# EAGLE library part PIC32MK1024MCF064-I_PT (library PIC_FORREAL)
MICROCHIP - PIC32MK1024MCF064-I/PT - MCU, 32BIT, PIC32, 120MHZ, TQFP-64 Source: Datasheet <http://ww1.microchip.com/downloads/en/DeviceDoc/60001402D.pdf>
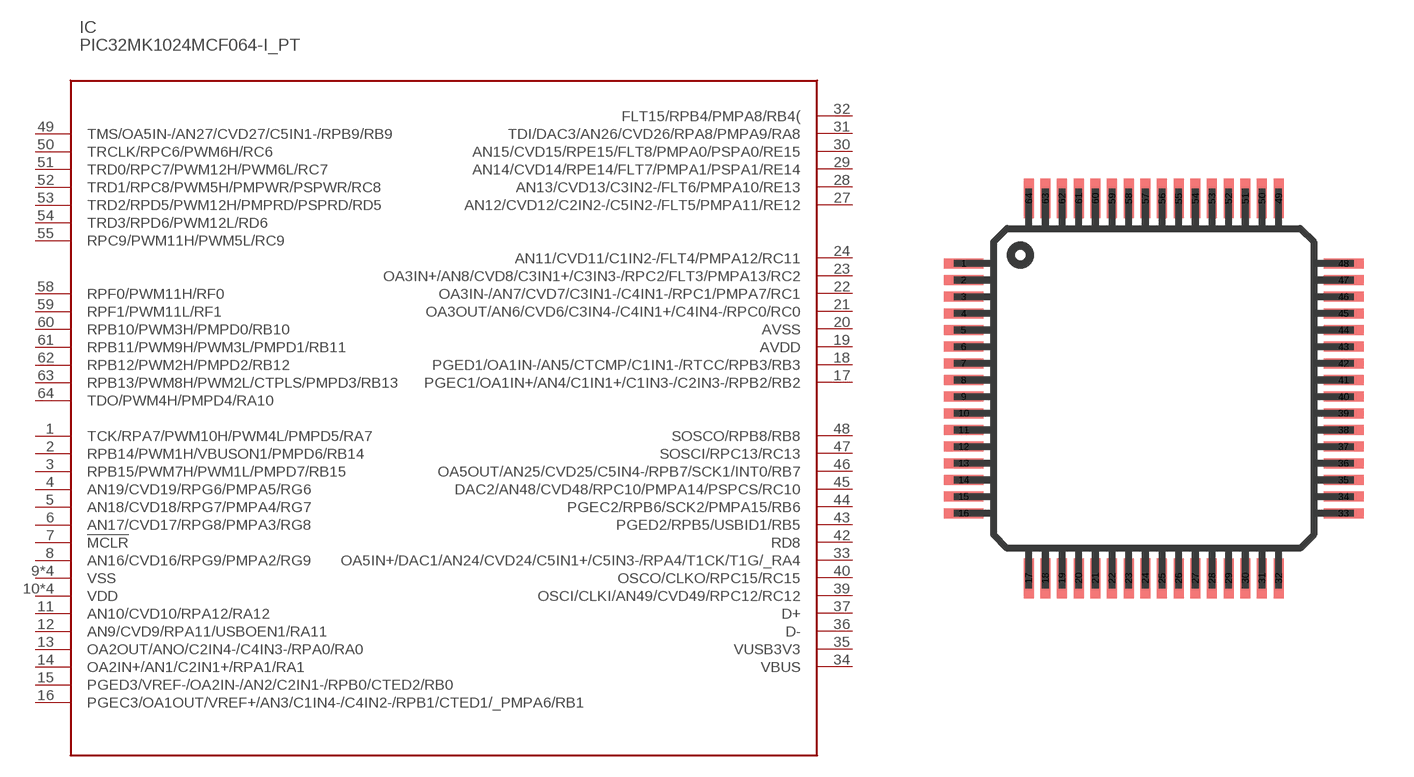
[diagram p0: symbol with the pads of TQFP64-10X10; footprint TQFP64-10X10]

Designator prefix IC

## PIC32MK1024MCF064-I_PT  [TQFP64-10X10]
1  TCK/RPA7/PWM10H/PWM4L/PMPD5/RA7
2  RPB14/PWM1H/VBUSON1/PMPD6/RB14
3  RPB15/PWM7H/PWM1L/PMPD7/RB15
4  AN19/CVD19/RPG6/PMPA5/RG6
5  AN18/CVD18/RPG7/PMPA4/RG7
6  AN17/CVD17/RPG8/PMPA3/RG8
7  !MCLR
8  AN16/CVD16/RPG9/PMPA2/RG9
9  VSS
10  VDD
11  AN10/CVD10/RPA12/RA12
12  AN9/CVD9/RPA11/USBOEN1/RA11
13  OA2OUT/ANO/C2IN4-/C4IN3-/RPA0/RA0
14  OA2IN+/AN1/C2IN1+/RPA1/RA1
15  PGED3/VREF-/OA2IN-/AN2/C2IN1-/RPB0/CTED2/RB0
16  PGEC3/OA1OUT/VREF+/AN3/C1IN4-/C4IN2-/RPB1/CTED1/_PMPA6/RB1
17  PGEC1/OA1IN+/AN4/C1IN1+/C1IN3-/C2IN3-/RPB2/RB2
18  PGED1/OA1IN-/AN5/CTCMP/C1IN1-/RTCC/RPB3/RB3
19  AVDD
20  AVSS
21  OA3OUT/AN6/CVD6/C3IN4-/C4IN1+/C4IN4-/RPC0/RC0
22  OA3IN-/AN7/CVD7/C3IN1-/C4IN1-/RPC1/PMPA7/RC1
23  OA3IN+/AN8/CVD8/C3IN1+/C3IN3-/RPC2/FLT3/PMPA13/RC2
24  AN11/CVD11/C1IN2-/FLT4/PMPA12/RC11
25  VSS
26  VDD
27  AN12/CVD12/C2IN2-/C5IN2-/FLT5/PMPA11/RE12
28  AN13/CVD13/C3IN2-/FLT6/PMPA10/RE13
29  AN14/CVD14/RPE14/FLT7/PMPA1/PSPA1/RE14
30  AN15/CVD15/RPE15/FLT8/PMPA0/PSPA0/RE15
31  TDI/DAC3/AN26/CVD26/RPA8/PMPA9/RA8
32  FLT15/RPB4/PMPA8/RB4(
33  OA5IN+/DAC1/AN24/CVD24/C5IN1+/C5IN3-/RPA4/T1CK/T1G/_RA4
34  VBUS
35  VUSB3V3
36  D-
37  D+
38  VDD
39  OSCI/CLKI/AN49/CVD49/RPC12/RC12
40  OSCO/CLKO/RPC15/RC15
41  VSS
42  RD8
43  PGED2/RPB5/USBID1/RB5
44  PGEC2/RPB6/SCK2/PMPA15/RB6
45  DAC2/AN48/CVD48/RPC10/PMPA14/PSPCS/RC10
46  OA5OUT/AN25/CVD25/C5IN4-/RPB7/SCK1/INT0/RB7
47  SOSCI/RPC13/RC13
48  SOSCO/RPB8/RB8
49  TMS/OA5IN-/AN27/CVD27/C5IN1-/RPB9/RB9
50  TRCLK/RPC6/PWM6H/RC6
51  TRD0/RPC7/PWM12H/PWM6L/RC7
52  TRD1/RPC8/PWM5H/PMPWR/PSPWR/RC8
53  TRD2/RPD5/PWM12H/PMPRD/PSPRD/RD5
54  TRD3/RPD6/PWM12L/RD6
55  RPC9/PWM11H/PWM5L/RC9
56  VSS
57  VDD
58  RPF0/PWM11H/RF0
59  RPF1/PWM11L/RF1
60  RPB10/PWM3H/PMPD0/RB10
61  RPB11/PWM9H/PWM3L/PMPD1/RB11
62  RPB12/PWM2H/PMPD2/RB12
63  RPB13/PWM8H/PWM2L/CTPLS/PMPD3/RB13
64  TDO/PWM4H/PMPD4/RA10

## Footprint TQFP64-10X10 (pad centres in mm)
Thin Quad Flat Pack package type TQ
smd 1.2 x 0.3: 1 -5.7,3.75; 2 -5.7,3.25; 3 -5.7,2.75; 4 -5.7,2.25; 5 -5.7,1.75; 6 -5.7,1.25; 7 -5.7,0.75; 8 -5.7,0.25; 9 -5.7,-0.25; 10 -5.7,-0.75; 11 -5.7,-1.25; 12 -5.7,-1.75; 13 -5.7,-2.25; 14 -5.7,-2.75; 15 -5.7,-3.25; 16 -5.7,-3.75; 33 5.7,-3.75; 34 5.7,-3.25; 35 5.7,-2.75; 36 5.7,-2.25; 37 5.7,-1.75; 38 5.7,-1.25; 39 5.7,-0.75; 40 5.7,-0.25; 41 5.7,0.25; 42 5.7,0.75; 43 5.7,1.25; 44 5.7,1.75; 45 5.7,2.25; 46 5.7,2.75; 47 5.7,3.25; 48 5.7,3.75
smd 0.3 x 1.2: 17 -3.75,-5.7; 18 -3.25,-5.7; 19 -2.75,-5.7; 20 -2.25,-5.7; 21 -1.75,-5.7; 22 -1.25,-5.7; 23 -0.75,-5.7; 24 -0.25,-5.7; 25 0.25,-5.7; 26 0.75,-5.7; 27 1.25,-5.7; 28 1.75,-5.7; 29 2.25,-5.7; 30 2.75,-5.7; 31 3.25,-5.7; 32 3.75,-5.7; 49 3.75,5.7; 50 3.25,5.7; 51 2.75,5.7; 52 2.25,5.7; 53 1.75,5.7; 54 1.25,5.7; 55 0.75,5.7; 56 0.25,5.7; 57 -0.25,5.7; 58 -0.75,5.7; 59 -1.25,5.7; 60 -1.75,5.7; 61 -2.25,5.7; 62 -2.75,5.7; 63 -3.25,5.7; 64 -3.75,5.7